# Altium schematic symbol library TEENSY_4.1.SchLib: 1 symbol
Pins are listed as number, name and electrical type; pins without a type are passive.

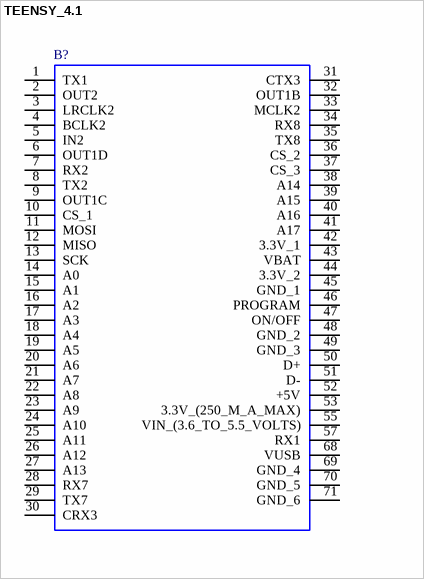
[diagram p0: symbol TEENSY_4.1]

## TEENSY_4.1
designator B?
Teensy 4.1 Development Board; Manufacturer_Name: PJRC; Manufacturer_Part_Number: TEENSY 4.1; Mouser Part Number: *; Mouser Price/Stock: *; Arrow Part Number: *; Arrow Price/Stock: *; Mouser Testing Part Number: *; Mouser Testing Price/Stock: *; Datasheet Link: https://www.pjrc.com/store/teensy41.html
footprint TEENSY41
pins: 1 TX1, 2 OUT2, 3 LRCLK2, 4 BCLK2, 5 IN2, 6 OUT1D, 7 RX2, 8 TX2, 9 OUT1C, 10 CS_1, 11 MOSI, 12 MISO, 13 SCK, 14 A0, 15 A1, 16 A2, 17 A3, 18 A4, 19 A5, 20 A6, 21 A7, 22 A8, 23 A9, 24 A10, 25 A11, 26 A12, 27 A13, 28 RX7, 29 TX7, 30 CRX3, 31 CTX3, 32 OUT1B, 33 MCLK2, 34 RX8, 35 TX8, 36 CS_2, 37 CS_3, 38 A14, 39 A15, 40 A16, 41 A17, 42 3.3V_1, 43 VBAT, 44 3.3V_2, 45 GND_1, 46 PROGRAM, 47 ON/OFF, 48 GND_2, 49 GND_3, 50 D+, 51 D-, 52 +5V, 53 3.3V_(250_M_A_MAX), 55 VIN_(3.6_TO_5.5_VOLTS), 57 RX1, 68 VUSB, 69 GND_4, 70 GND_5, 71 GND_6